# Altium footprint library EKMC1605113.PcbLib: 1 footprints
Each footprint in its own frame and in the unit in brackets; x right, y up, seen from the top. Pads: shape width x height; smd on the part's side, far side on the other; paste and mask are expansions set on the pad; w line width, h text height; cw(c..) or ccw(c..) is an arc to the next point about the centre after c.
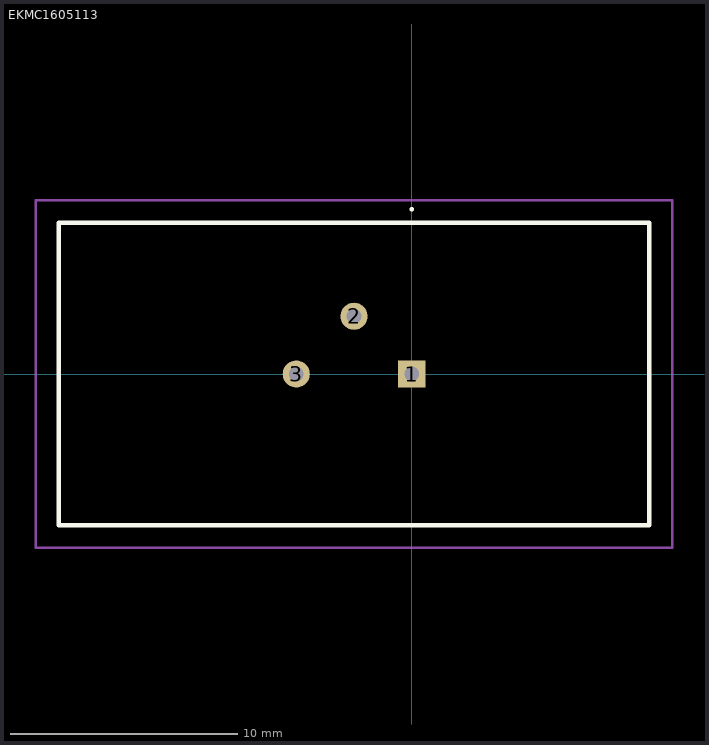
[diagram p0: the footprint, top view; thin cyan lines are the x and y axes]

## EKMC1605113 [mm]
pads (3):
  rect 1.192x1.192 hole 0.65: 1(0,0)
  round 1.192 hole 0.65: 2(-2.54,2.54) 3(-5.08,0)
Top Overlay:
  lines w0.1: 0,7.2 0,7.2 ; 0,7.2 ccw(c0,7.25) 0,7.3 ; 0,7.2 cw(c0,7.25) 0,7.3 ; 0,7.3 0,7.3
  lines w0.2: -15.54,-6.65 -15.54,6.65 10.46,6.65 10.46,-6.65 -15.54,-6.65
Mechanical 15:
  lines w0.1: -15.54,-6.65 -15.54,6.65 10.46,6.65 10.46,-6.65 -15.54,-6.65
Mechanical 20:
  lines w0.1: -16.54,-7.65 -16.54,7.65 11.46,7.65 11.46,-7.65 -16.54,-7.65